# Altium footprint library MOLEX_530470610.PcbLib: 1 footprints
Each footprint in its own frame and in the unit in brackets; x right, y up, seen from the top. Pads: shape width x height; smd on the part's side, far side on the other; paste and mask are expansions set on the pad; w line width, h text height; cw(c..) or ccw(c..) is an arc to the next point about the centre after c.
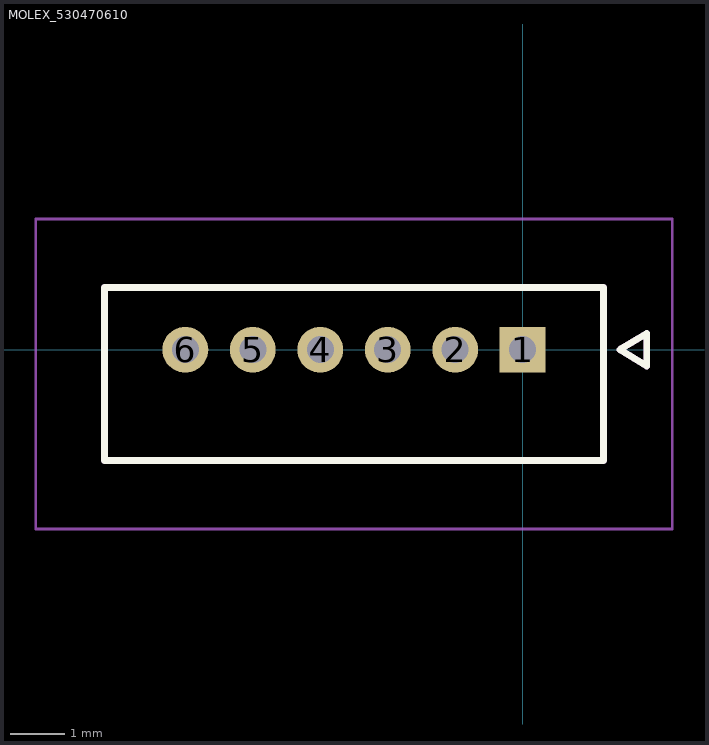
[diagram p0: the footprint, top view; thin cyan lines are the x and y axes]

## MOLEX_530470610 [mm]
height 4.2
pads (6):
  rect 0.85x0.85 / inner round 0.85 / far side rect 0.85x0.85 hole 0.5 mask+0.076: 1(0,0)
  round 0.85 hole 0.5 mask+0.076: 2(-1.25,0) 3(-2.5,0) 4(-3.75,0) 5(-5,0) 6(-6.25,0)
Top Overlay:
  lines w0.127: -7.75,-2.05 1.5,-2.05 1.5,1.15 -7.75,1.15 -7.75,-2.05 ; 1.8,0 2.3,-0.3 2.3,0.3 1.8,0
Mechanical 13:
  lines w0.127: -7.75,-2.05 1.5,-2.05 1.5,1.15 -7.75,1.15 -7.75,-2.05 ; 1.8,0 2.3,-0.3 2.3,0.3 1.8,0
Mechanical 15:
  lines w0.05: -9.02,-3.32 2.77,-3.32 2.77,2.42 -9.02,2.42 -9.02,-3.32
3D body "530470610--3DModel-STEP-231308.STEP": height 4.23, standoff -2.27, extent -7.726,-2.057 1.524,1.143